# Altium integrated library XTAL.IntLib: 1 symbol
Pins are listed as number, name and electrical type; pins without a type are passive.

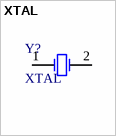
[diagram p0: symbol XTAL]

## XTAL
designator Y?
footprint XTAL
pins: 1, 2